# Altium footprint library DiodesTHD.PcbLib: 51 footprints (part 1 of 4)
Each footprint in its own frame and in the unit in brackets; x right, y up, seen from the top. Pads: shape width x height; smd on the part's side, far side on the other; paste and mask are expansions set on the pad; w line width, h text height; cw(c..) or ccw(c..) is an arc to the next point about the centre after c.
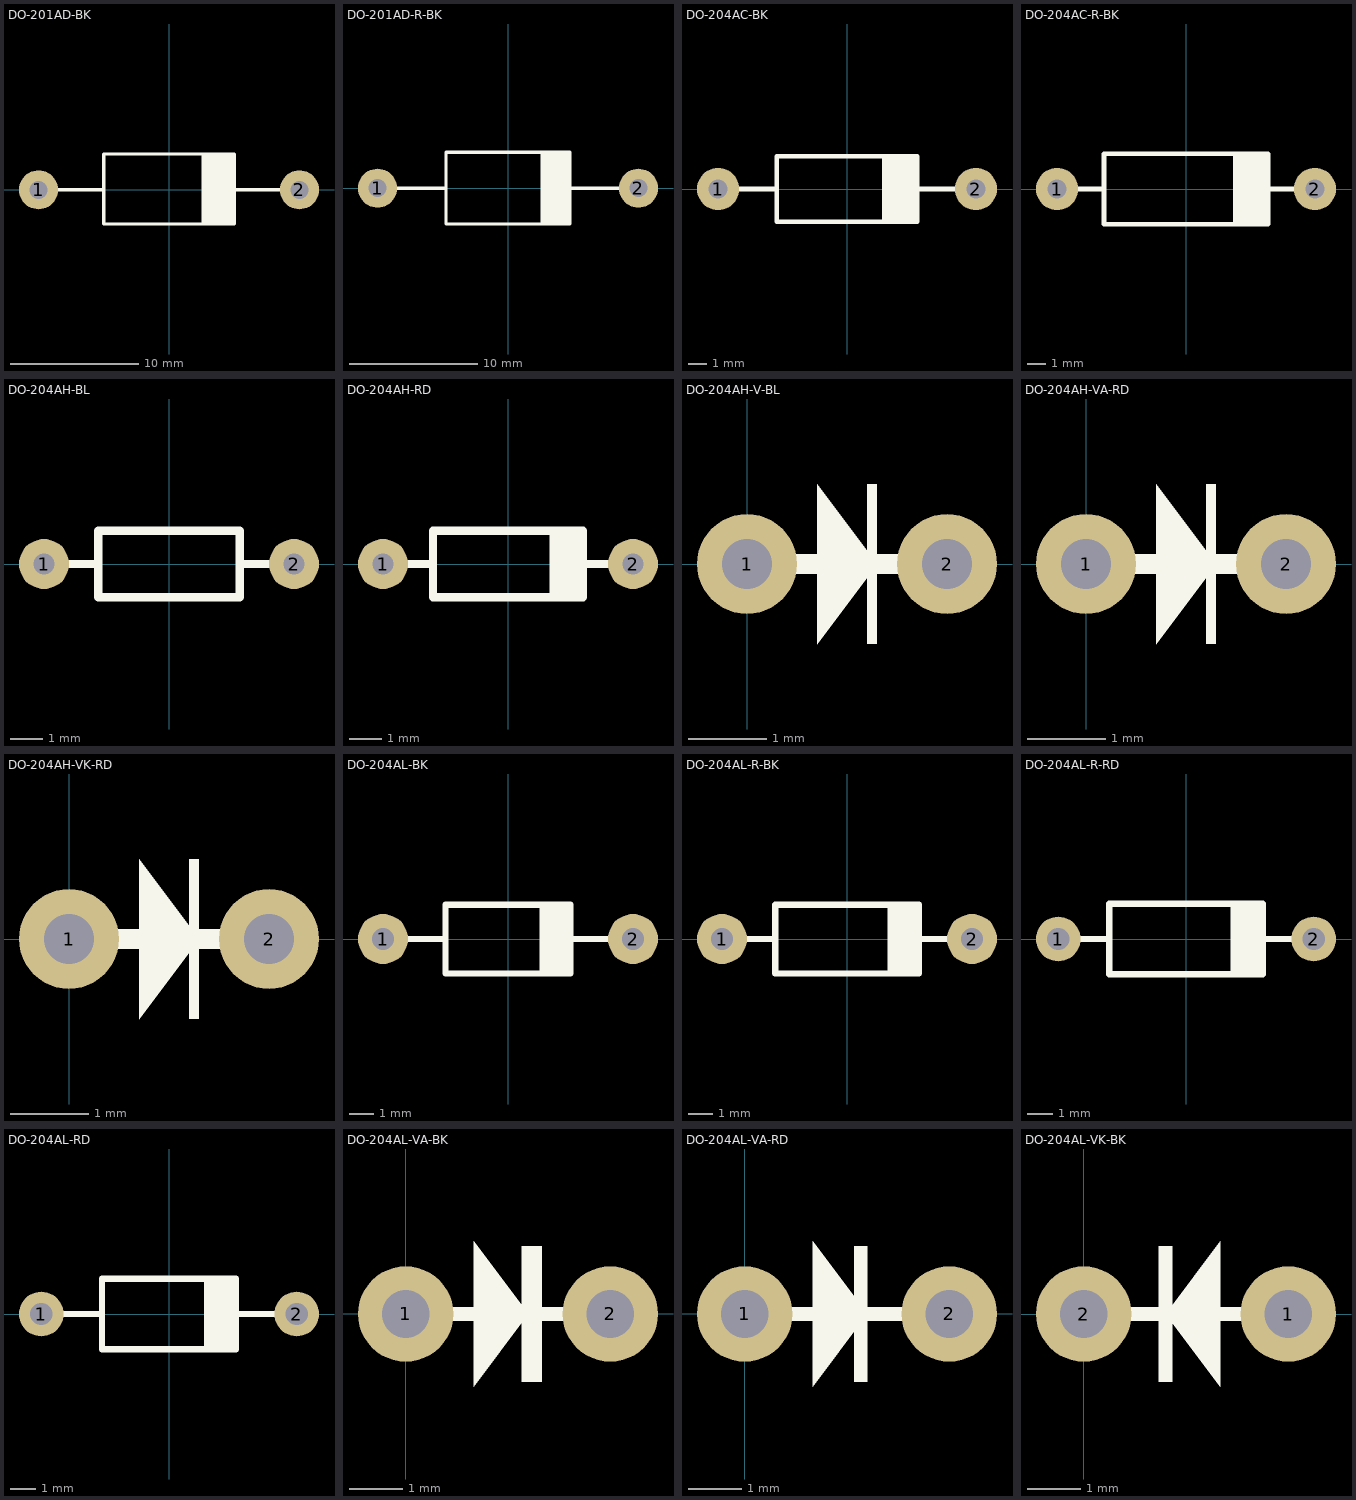
[diagram p0: the footprints below, top view; thin cyan lines are the x and y axes]

## DO-201AD-BK [mil]
pads (2):
  round 120 hole 55: 1(-400,0) 2(400,0)
Top Overlay:
  rectangle: 100,-105 200,110
  lines w10: -340,0 -202.5,0 ; 200,0 340,0 ; -200,-105 200,-105 200,110 -200,110 -200,-105
3D body "DO-201AD-BK.stp": height 224.41, standoff -98.43, extent -425.39,-110.16 425.59,110.16

## DO-201AD-R-BK [mil]
pads (2):
  round 120 hole 55: 1(-400,0) 2(400,0)
Top Overlay:
  rectangle: 100,-115 190,110
  lines w10: -340,0 -190,0 ; 190,0 340,0 ; -190,-110 190,-110 190,110 -190,110 -190,-110
3D body "DO-201AD-R-BK.stp": height 437.01, standoff -98.43, extent -425.59,-110.16 425.59,110.16

## DO-204AC-BK [mil]
pads (2):
  round 90 hole 40: 1(-275,0) 2(275,0)
Top Overlay:
  rectangle: 75,-70 150,70
  lines w10: -230,0 -150,0 ; 150,0 230,0 ; -150,-70 150,-70 150,70 -150,70 -150,-70
3D body "DO-204AC-BK.stp": height 145.67, standoff -98.43, extent -292.58,-70.86 292.72,70.87

## DO-204AC-R-BK [mil]
pads (2):
  round 90 hole 40: 1(-275,0) 2(275,0)
Top Overlay:
  rectangle: 100,-75 175,75
  lines w10: -230,0 -175,0 ; 175,0 230,0 ; -175,-75 175,-75 175,75 -175,75 -175,-75
3D body "DO-204AC-R-BK.stp": height 318.9, standoff -98.43, extent -292.72,-70.87 292.72,70.86

## DO-204AH-BL [mil]
pads (2):
  round 60 hole 25: 1(-150,0) 2(150,0)
Top Overlay:
  lines w10: -120,0 -85,0 ; 85,0 120,0 ; -85,-40 85,-40 85,40 -85,40 -85,-40
3D body "DO-204AH-BL.stp": height 82.37, standoff -98.43, extent -160.83,-39.29 160.74,39.29

## DO-204AH-RD [mil]
pads (2):
  round 60 hole 25: 1(-150,0) 2(150,0)
Top Overlay:
  rectangle: 50,-40 90,40
  lines w10: -120,0 -90,0 ; 90,0 120,0 ; -90,-40 90,-40 90,40 -90,40 -90,-40
3D body "DO-204AH-RD.stp": height 82.37, standoff -98.43, extent -160.75,-39.29 160.82,39.3

## DO-204AH-V-BL [mil]
pads (2):
  round 50 hole 25: 1(0,0) 2(100,0)
Top Overlay:
  rectangle: 60,-40 65,40
  region: 35,40 35,-40 65,0
  lines w10: 25,0 35,0 ; 65,0 75,0
3D body "DO-204AH-V-BL.stp": height 256.1, standoff -98.43, extent -39.06,-39.29 110.74,39.29

## DO-204AH-VA-RD [mil]
pads (2):
  round 50 hole 25: 1(0,0) 2(100,0)
Top Overlay:
  rectangle: 60,-40 65,40
  region: 35,40 35,-40 65,0
  lines w10: 25,0 35,0 ; 65,0 75,0
3D body "DO-204AH-VA-RD.stp": height 256.1, standoff -98.43, extent -39.05,-39.28 110.75,39.3

## DO-204AH-VK-RD [mil]
pads (2):
  round 50 hole 25: 1(0,0) 2(100,0)
Top Overlay:
  rectangle: 60,-40 65,40
  region: 35,40 35,-40 65,0
  lines w10: 25,0 35,0 ; 65,0 75,0
3D body "DO-204AH-VK-RD.stp": height 256.47, standoff -98.43, extent -39.06,-39.29 110.83,39.29

## DO-204AL-BK [mil]
pads (2):
  round 80 hole 35: 1(-200,0) 2(200,0)
Top Overlay:
  rectangle: 50,-55 100,55
  lines w10: -160,0 -100,0 ; 100,0 165,0 ; -100,-55 100,-55 100,55 -100,55 -100,-55
3D body "DO-204AL-BK.stp": height 109.82, standoff -98.43, extent -215.63,-53.04 215.74,53.04

## DO-204AL-R-BK [mil]
pads (2):
  round 80 hole 35: 1(-200,0) 2(200,0)
Top Overlay:
  rectangle: 65,-55 115,55
  lines w10: -160,0 -115,0 ; 115,0 165,0 ; -115,-55 115,-55 115,55 -115,55 -115,-55
3D body "DO-204AL-R-BK.stp": height 243.68, standoff -98.43, extent -215.74,-53.04 215.75,53.05

## DO-204AL-R-RD [mil]
pads (2):
  round 70 hole 35: 1(-200,0) 2(200,0)
Top Overlay:
  rectangle: 70,-55 120,55
  lines w10: -165,0 -120,0 ; 120,0 165,0 ; -120,-55 120,-55 120,55 -120,55 -120,-55
3D body "DO-204AL-R-RD.stp": height 243.68, standoff -98.43, extent -215.75,-53.04 215.74,53.04

## DO-204AL-RD [mil]
pads (2):
  round 70 hole 35: 1(-200,0) 2(200,0)
Top Overlay:
  rectangle: 55,-55 105,55
  lines w10: -165,0 -105,0 ; 105,0 165,0 ; -105,-55 105,-55 105,55 -105,55 -105,-55
3D body "DO-204AL-RD.stp": height 109.82, standoff -98.43, extent -215.63,-53.05 215.74,53.04

## DO-204AL-VA-BK [mil]
pads (2):
  round 70 hole 35: 1(0,0) 2(150,0)
Top Overlay:
  rectangle: 85,-50 100,50
  region: 50,53.33 50,-53.33 90,0
  lines w10: 35,0 50,0 ; 90,0 115,0
3D body "DO-204AL-VA-BK.stp": height 285.06, standoff -98.43, extent -52.73,-53.03 165.63,53.05

## DO-204AL-VA-RD [mil]
pads (2):
  round 70 hole 35: 1(0,0) 2(150,0)
Top Overlay:
  rectangle: 80,-50 90,50
  region: 50,53.33 50,-53.33 90,0
  lines w10: 35,0 50,0 ; 90,0 120,0
3D body "DO-204AL-VA-RD.stp": height 330.34, standoff -98.43, extent -52.72,-53.04 165.63,53.05

## DO-204AL-VK-BK [mil]
pads (2):
  round 70 hole 35: 1(150,0) 2(0,0)
Top Overlay:
  region: 65,50 55,50 55,-50 65,-50
  region: 100,-53.33 100,53.33 60,0
  lines w10: 35,0 60,0 ; 100,0 115,0
3D body "DO-204AL-VK-BK.stp": height 285.07, standoff -98.43, extent -52.73,-53.04 165.75,53.04